# Altium footprint library MCU127_M2-CC3351_RevA.PcbLib: 29 footprints (part 1 of 2)
Each footprint in its own frame and in the unit in brackets; x right, y up, seen from the top. Pads: shape width x height; smd on the part's side, far side on the other; paste and mask are expansions set on the pad; w line width, h text height; cw(c..) or ccw(c..) is an arc to the next point about the centre after c.
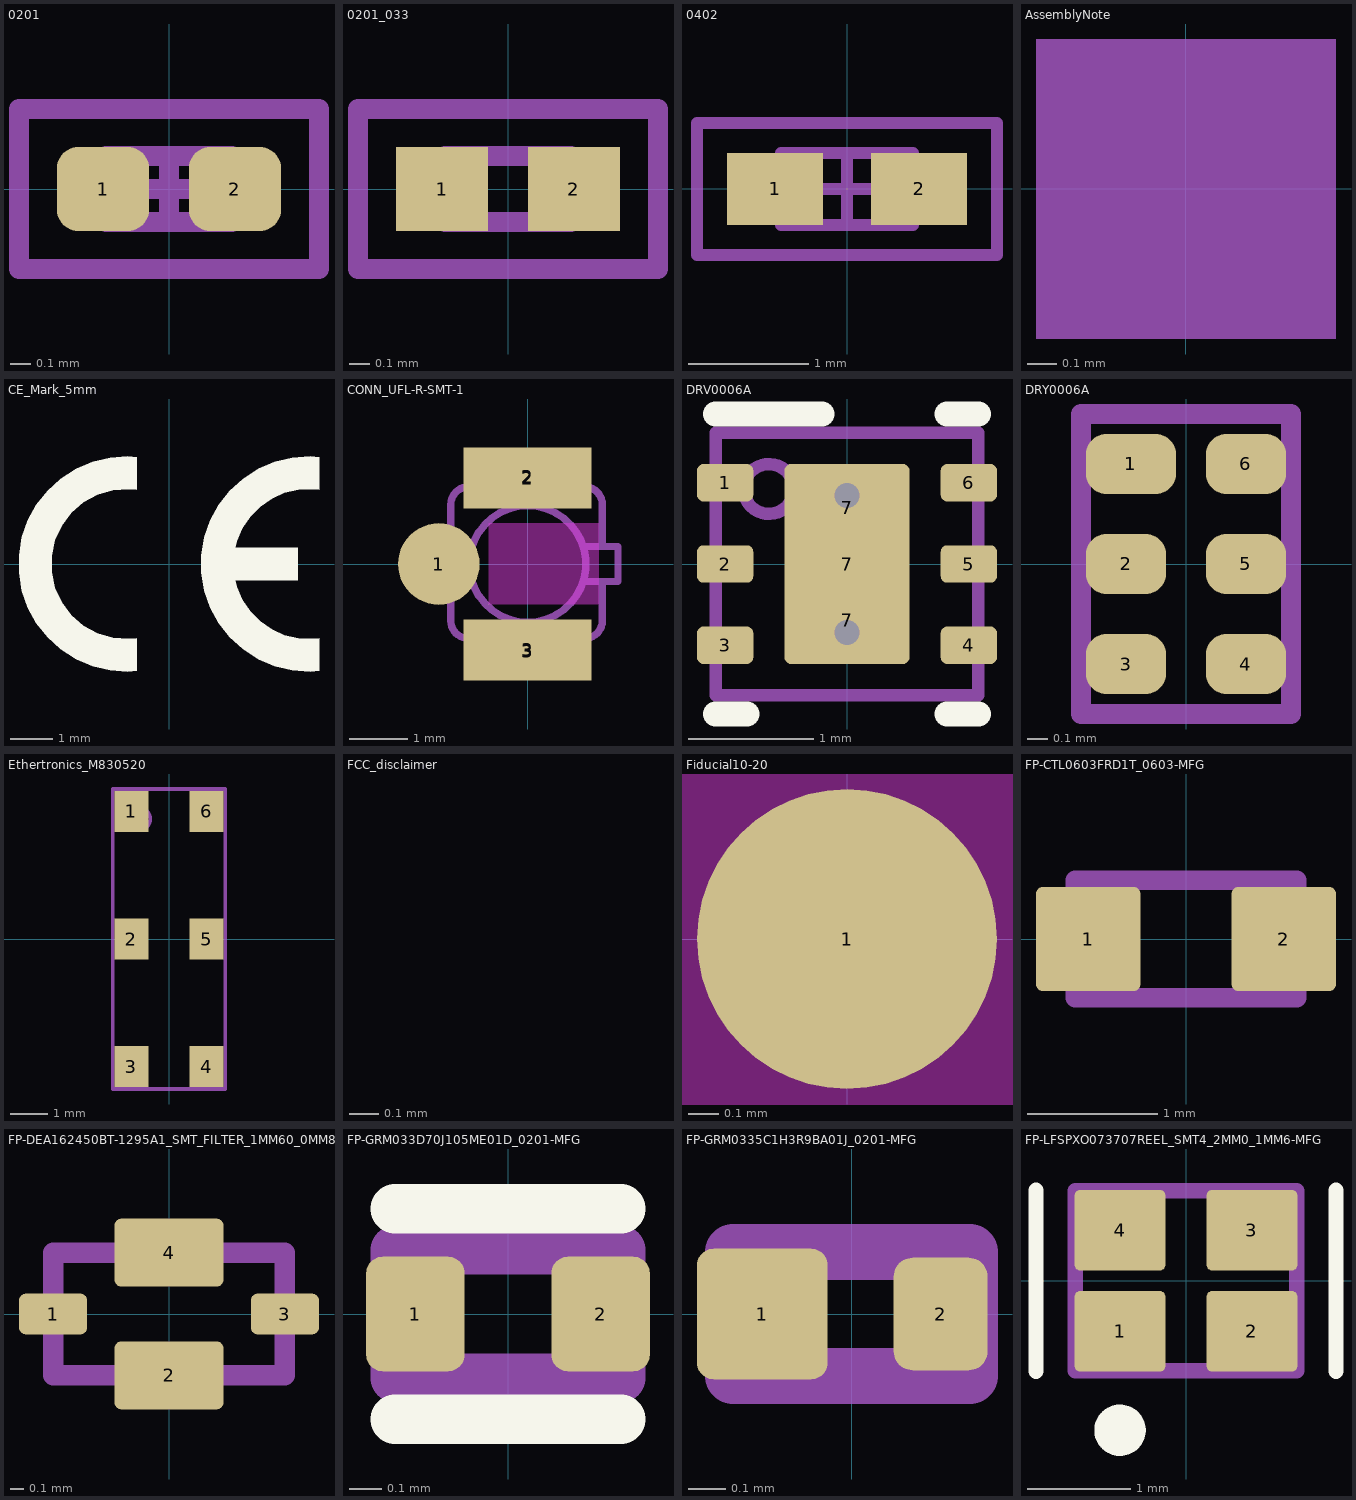
[diagram p0: the footprints below, top view; thin cyan lines are the x and y axes]

## 0201 [mm]
pads (2):
  rrect50% 0.46x0.42 smd mask+0.048: 1(-0.33,0) 2(0.33,0)
Mechanical 5:
  lines w0.1: -0.75,-0.4 0.75,-0.4 0.75,0.4 -0.75,0.4 -0.75,-0.4
  text ".Designator" at -0.66,-0.178 h0.36
Mechanical 13:
  lines w0.1: -0.215,-0.165 -0.215,0.165 ; 0.215,-0.165 0.215,0.165 ; -0.315,-0.165 -0.315,0.165 0.315,0.165 0.315,-0.165 -0.315,-0.165
Mechanical 15:
  lines w0.1: -0.165,0 0.165,0 ; 0,-0.165 0,0.165 ; -0.75,-0.4 -0.75,0.4 0.75,0.4 0.75,-0.4 -0.75,-0.4
3D body: height 0.26, standoff 0, extent -0.314,-0.164 -0.216,0.164
3D body: height 0.26, standoff 0, extent -0.214,-0.164 0.214,0.164
3D body: height 0.26, standoff 0, extent 0.216,-0.164 0.314,0.164

## 0201_033 [mm]
pads (2):
  rect 0.46x0.42 smd mask+0.048: 1(-0.33,0) 2(0.33,0)
Mechanical 5:
  lines w0.1: -0.75,-0.4 0.75,-0.4 0.75,0.4 -0.75,0.4 -0.75,-0.4
  text ".Designator" at -0.66,-0.178 h0.36
Mechanical 13:
  lines w0.1: -0.215,-0.165 -0.215,0.165 ; 0.215,-0.165 0.215,0.165 ; -0.315,-0.165 -0.315,0.165 0.315,0.165 0.315,-0.165 -0.315,-0.165
3D body: height 0.33, standoff 0, extent -0.314,-0.164 -0.216,0.164
3D body: height 0.33, standoff 0, extent -0.214,-0.164 0.214,0.164
3D body: height 0.33, standoff 0, extent 0.216,-0.164 0.314,0.164

## 0402 [mm]
pads (2):
  rect 0.8x0.6 smd: 1(-0.6,0) 2(0.6,0)
Mechanical 5:
  lines w0.1: -1.25,-0.55 1.25,-0.55 1.25,0.55 -1.25,0.55 -1.25,-0.55
  text ".Designator" at -1.117,-0.305 h0.61
Mechanical 13:
  lines w0.1: -0.35,-0.3 -0.35,0.3 ; 0.35,-0.3 0.35,0.3 ; -0.55,-0.3 -0.55,0.3 0.55,0.3 0.55,-0.3 -0.55,-0.3
Mechanical 15:
  lines w0.1: -0.3,0 0.3,0 ; 0,-0.3 0,0.3 ; -1.25,-0.55 -1.25,0.55 1.25,0.55 1.25,-0.55 -1.25,-0.55
3D body: height 0.6, standoff 0, extent -0.549,-0.299 -0.351,0.299
3D body: height 0.6, standoff 0, extent -0.349,-0.299 0.349,0.299
3D body: height 0.6, standoff 0, extent 0.351,-0.299 0.549,0.299

## AssemblyNote [mm]
Mechanical 5:
  rectangle: -0.508,-0.508 0.508,0.508
  text ".Designator" at -4.191,-0.508 h1.02
  text ".Comment" at 1.143,-0.508 h1.02

## CE_Mark_5mm [mm]
Top Overlay:
  region: 3.5,-1.732 3.337,-1.748 3.01,-1.733 2.691,-1.658 2.392,-1.525 2.123,-1.339 1.894,-1.106 1.712,-0.834 1.583,-0.533 1.541,-0.375 3,-0.375 3,0.375 1.541,0.375 1.583,0.533 1.712,0.834 1.894,1.106 2.123,1.339 2.392,1.525 2.691,1.658 3.01,1.733 3.337,1.748 3.5,1.732 3.5,2.487 3.292,2.508 2.874,2.48 2.467,2.383 2.081,2.22 1.728,1.994 1.418,1.714 1.158,1.385 0.957,1.018 0.82,0.622 0.75,0.209 0.75,-0.209 0.82,-0.622 0.957,-1.018 1.158,-1.385 1.418,-1.714 1.728,-1.994 2.081,-2.22 2.467,-2.383 2.874,-2.48 3.292,-2.508 3.5,-2.487
  region: -0.75,-2.487 -0.958,-2.508 -1.376,-2.48 -1.783,-2.383 -2.169,-2.22 -2.522,-1.994 -2.832,-1.714 -3.092,-1.385 -3.293,-1.018 -3.43,-0.622 -3.5,-0.209 -3.5,0.209 -3.43,0.622 -3.293,1.018 -3.092,1.385 -2.832,1.714 -2.522,1.994 -2.169,2.22 -1.783,2.383 -1.376,2.48 -0.958,2.508 -0.75,2.487 -0.75,1.732 -0.937,1.749 -1.31,1.722 -1.669,1.617 -1.998,1.438 -2.281,1.193 -2.505,0.893 -2.66,0.553 -2.74,0.187 -2.74,-0.187 -2.66,-0.553 -2.505,-0.893 -2.281,-1.193 -1.998,-1.438 -1.669,-1.617 -1.31,-1.722 -0.937,-1.749 -0.75,-1.732

## CONN_UFL-R-SMT-1 [mm]
pads (7):
  round 1.4 smd paste-0.1 mask-0.1: 1(-1.525,0)
  rect 2.2x1.05 smd paste-2 mask-2: 2(0,1.475) 3(0,-1.475)
  rect 2x0.9 on Top Paste: 2(0,1.5) 3(0,-1.5)
  rect 2x0.9 on Top Solder: 2(0,1.5) 3(0,-1.5)
Top Layer keep-out:
  rectangle: -0.671,-0.698 1.229,0.702
Mechanical 5:
  lines w0.127: -1.319,-0.3 -1.55,-0.3 -1.55,0.3 -1.319,0.3 ; -0.9,-1.277 -0.9,-1.5 0.9,-1.5 0.9,-1.277 ; -0.9,1.323 -0.9,1.5 0.9,1.5 0.9,1.323 ; 0.954,-0.3 1.55,-0.3 1.55,0.3 0.954,0.3 ; 1.281,-0.3 1.281,-0.977 cw(c0.981,-0.977) 0.981,-1.277 -1.019,-1.277 cw(c-1.019,-0.977) -1.319,-0.977 -1.319,1.023 cw(c-1.019,1.023) -1.019,1.323 0.981,1.323 cw(c0.981,1.023) 1.281,1.023 1.281,0.3 ; 0,-1 cw(c0,0) 0,1 ; 0,-1 ccw(c0,0) 0,1 ; 0,-1 ccw(c0,0) 0,1 ; 0,-1 cw(c0,0) 0,1
  text ".Designator" at -0.7,-0.2 h0.38
3D body "U.FL-R-SMT-1.stp": height 1.27, standoff 0.01, extent -1.55,-1.5 1.55,1.5

## DRV0006A [mm]
pads (9):
  rrect33% 0.45x0.3 smd: 1(-0.975,0.65) 2(-0.975,0) 3(-0.975,-0.65) 4(0.975,-0.65) 5(0.975,0) 6(0.975,0.65)
  rrect50% 1x0.7 on Top Paste: 7(0,-0.45) 7(0,0.45)
  rrect10% 1x1.6 smd paste-0.5: 7(0,0)
via 0,0.55 diameter 0.5 hole 0.2
via 0,-0.55 diameter 0.5 hole 0.2
Top Overlay:
  lines w0.2: -1.05,-1.2 -0.8,-1.2 ; -1.05,1.2 -0.2,1.2 ; 0.8,-1.2 1.05,-1.2 ; 0.8,1.2 1.05,1.2
Mechanical 5:
  circle w0.1: c-0.625,0.6 r0.2
  lines w0.1: -1.05,-1.05 -1.05,1.05 1.05,1.05 1.05,-1.05 -1.05,-1.05
  text ".Designator" at -0.9,-0.5 h0.51
3D body: height 0.8, standoff 0, extent -1.05,-1.05 1.05,1.05
3D body: height 0.81, standoff 0.5, extent -0.824,0.401 -0.426,0.799

## DRY0006A [mm]
pads (6):
  rrect67% 0.45x0.3 smd paste-0.05 mask-0.05: 1(-0.275,0.5)
  rrect67% 0.4x0.3 smd paste-0.05 mask-0.05: 2(-0.3,0) 3(-0.3,-0.5) 4(0.3,-0.5) 5(0.3,0) 6(0.3,0.5)
Mechanical 5:
  circle w0.05: c-0.325,0.5 r0.1
  lines w0.1: -0.525,-0.75 -0.525,0.75 0.525,0.75 0.525,-0.75 -0.525,-0.75
  text ".Designator" at -0.075,0.575 h0.3
3D body "DRY0006A.stp": height 0.58, standoff 0, extent -0.5,-0.725 0.5,0.725

## Ethertronics_M830520 [mm]
pads (6):
  rect 0.9x1.1 smd: 1(-1,3.4) 2(-1,0) 3(-1,-3.4) 4(1,-3.4) 5(1,0) 6(1,3.4)
Mechanical 5:
  circle w0.1: c-0.8,3.2 r0.3
  lines w0.1: -1.5,-4 1.5,-4 1.5,4 -1.5,4 -1.5,-4
  text ".Designator" at -0.9,-0.3 h1
3D body: height 1.33, standoff 0, extent -1.5,-4 1.5,4
3D body: height 1.33, standoff 1.33, extent -1.099,2.901 -0.501,3.499

## FCC_disclaimer [mm]
Top Overlay:
  text "For evaluation only; not FCC approved for resale." at -10.92,-1.636 h1.02

## Fiducial10-20 [mm]
pads (1):
  round 1 smd mask+0.5: 1(0,0)
Top Layer keep-out:
  circle w1.178: c0,0 r0.5

## FP-CTL0603FRD1T_0603-MFG [mm]
pads (2):
  rrect13% 0.8x0.8 smd paste+0 mask+0: 1(-0.75,0) 2(0.75,0)
Mechanical 5:
  lines w0.15: -0.85,-0.45 0.85,-0.45 0.85,0.45 -0.85,0.45 -0.85,-0.45
  text ".Designator" at 0,0 h0.5
3D body "Diode_CTL0603FRD1T_0603.STEP": height 0.25, standoff 0, extent -1.25,-0.55 1.25,0.55

## FP-DEA162450BT-1295A1_SMT_FILTER_1MM60_0MM80-MFG [mm]
pads (4):
  rrect33% 0.5x0.3 smd paste+0 mask+0: 1(-0.85,0) 3(0.85,0)
  rrect20% 0.8x0.5 smd paste+0 mask+0: 2(0,-0.45) 4(0,0.45)
Mechanical 5:
  lines w0.15: -0.85,-0.45 0.85,-0.45 0.85,0.45 -0.85,0.45 -0.85,-0.45
  text ".Designator" at 0.05,0.217 h0.5
3D body "Filter_DEA162450BT-1295A1_SMT_FILTER_1MM60_0MM80.STEP": height 0.25, standoff 0, extent -1.2,-0.8 1.2,0.8

## FP-GRM033D70J105ME01D_0201-MFG [mm]
pads (2):
  rrect33% 0.3x0.35 smd paste+0 mask+0: 1(-0.282,0) 2(0.282,0)
Top Overlay:
  lines w0.15: -0.345,-0.321 0.345,-0.321 ; -0.345,0.321 0.345,0.321
Mechanical 5:
  lines w0.15: -0.345,-0.195 0.345,-0.195 0.345,0.195 -0.345,0.195 -0.345,-0.195
  text ".Designator" at -0.226,-0.104 h0.18
3D body "Cap_GRM033D70J105ME01D_0201.STEP": height 0.25, standoff 0, extent -0.533,-0.295 0.533,0.295

## FP-GRM0335C1H3R9BA01J_0201-MFG [mm]
pads (2):
  rrect25% 0.348x0.348 smd paste+0 mask+0: 1(-0.238,0)
  rrect40% 0.25x0.3 smd paste+0 mask+0: 2(0.238,0)
Mechanical 5:
  lines w0.15: -0.315,-0.165 -0.315,0.165 0.315,0.165 0.315,-0.165 -0.315,-0.165
  text ".Designator" at 0.05,0.217 h0.5
3D body "Cap_GRM0335C1H3R9BA01J_0201.STEP": height 0.25, standoff 0, extent -0.463,-0.265 0.463,0.265

## FP-LFSPXO073707REEL_SMT4_2MM0_1MM6-MFG [mm]
pads (4):
  rrect13% 0.88x0.78 smd paste+0 mask+0: 1(-0.64,-0.49) 2(0.64,-0.49) 3(0.64,0.49) 4(-0.64,0.49)
Top Overlay:
  circle w0.25: c-0.64,-1.45 r0.125
  lines w0.15: -1.455,-0.88 -1.455,0.88 ; 1.455,-0.88 1.455,0.88
Mechanical 5:
  lines w0.15: -1.075,-0.875 -1.075,0.875 1.075,0.875 1.075,-0.875 -1.075,-0.875
  text ".Designator" at 0.05,0.217 h0.5
3D body "Crys_LFSPXO073707REEL_SMT4_2MM0_1MM6.STEP": height 0.25, standoff 0, extent -1.18,-0.98 1.18,0.98